# Altium footprint library HV9006_MEASUREBOARD.PCBLIB: 292 footprints (part 3 of 19)
Each footprint in its own frame and in the unit in brackets; x right, y up, seen from the top. Pads: shape width x height; smd on the part's side, far side on the other; paste and mask are expansions set on the pad; w line width, h text height; cw(c..) or ccw(c..) is an arc to the next point about the centre after c.
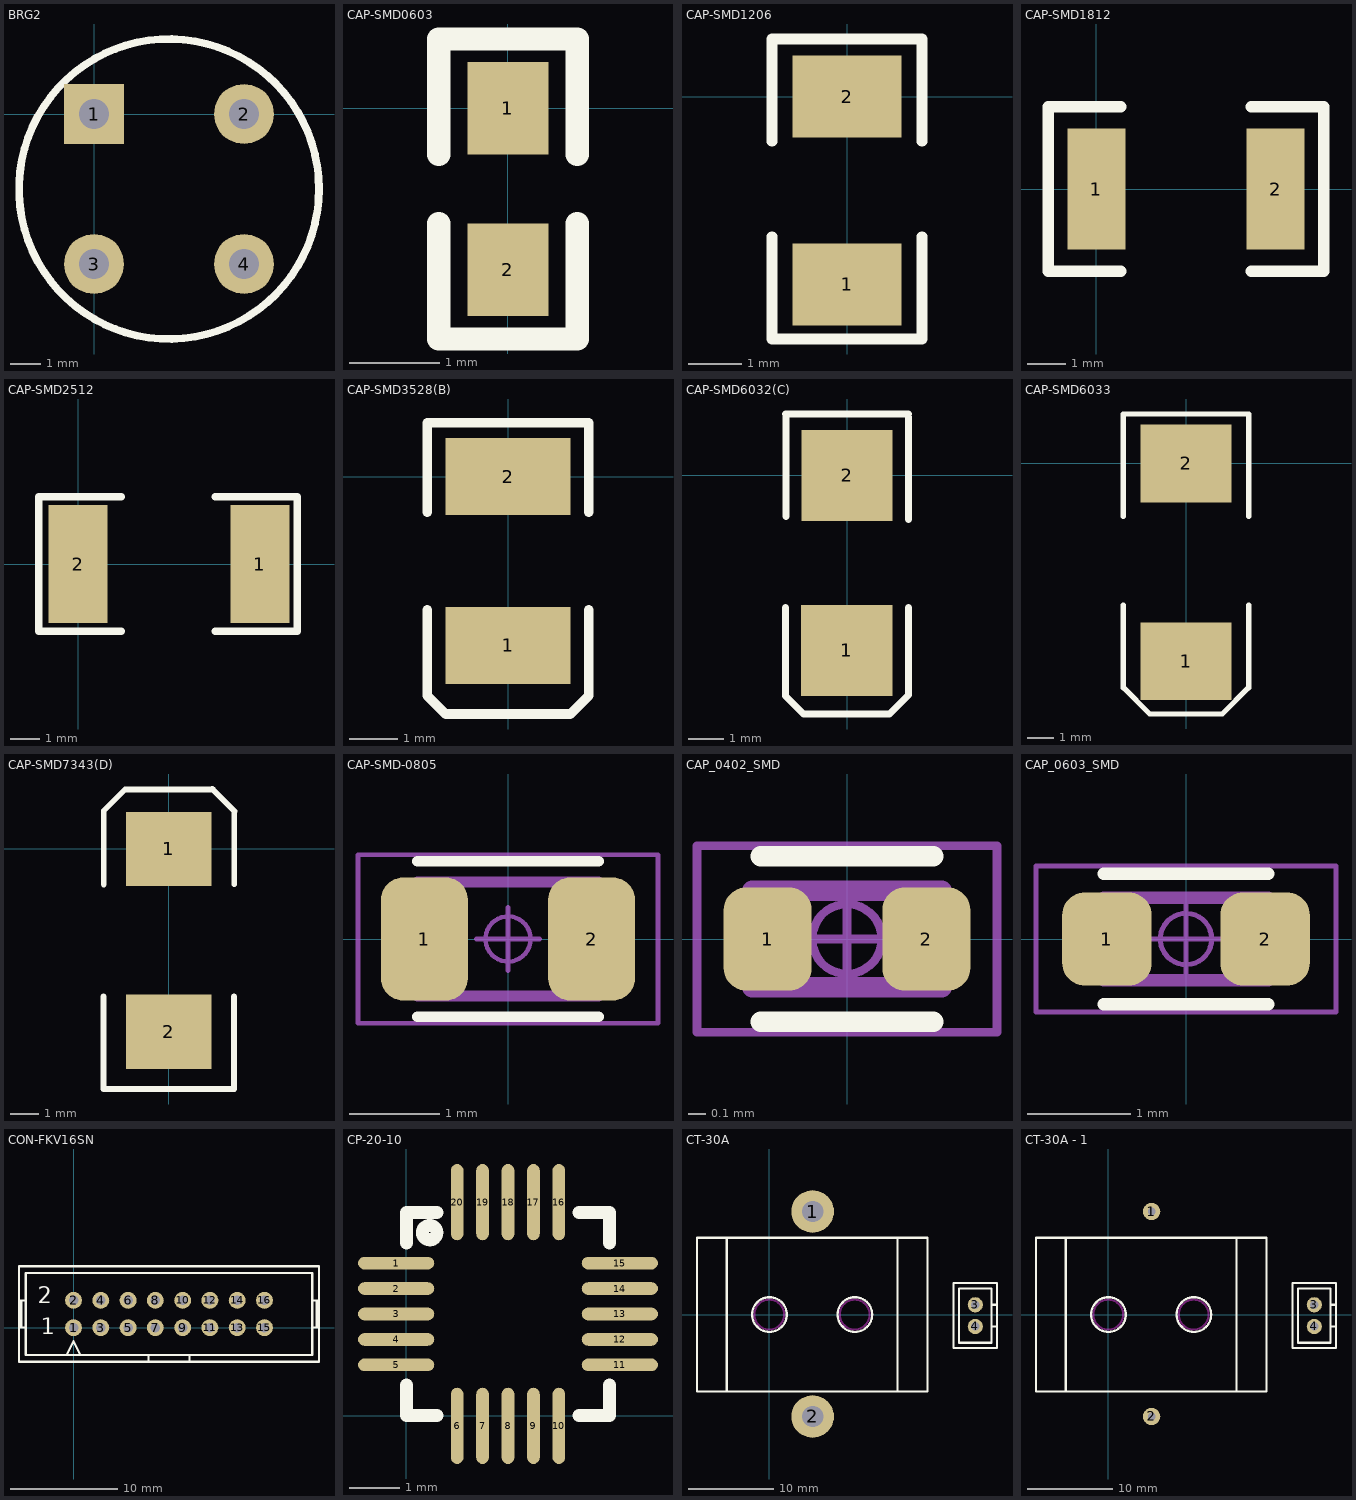
[diagram p2: the footprints below, top view; thin cyan lines are the x and y axes]

## BRG2 [mm]
pads (4):
  rect 2x2 hole 1: 1(0,0)
  round 2 hole 1: 2(5,0) 3(0,-5) 4(5,-5)
Top Overlay:
  circle w0.254: c2.5,-2.5 r5

## CAP-SMD0603 [mil]
pads (2):
  rect 35x40 smd: 1(0,0) 2(0,-70)
Top Overlay:
  lines w10: -30,-50 -30,-100 30,-100 30,-50 ; -30,-20 -30,30 30,30 30,-20

## CAP-SMD1206 [mil]
pads (2):
  rect 80x60 smd: 1(0,-137.79) 2(0,0)
Top Overlay:
  lines w8: -55,-102.8 -55,-177.79 55,-177.79 55,-102.8 ; -55,-32.8 -55,42.2 55,42.2 55,-32.8

## CAP-SMD1812 [mil]
pads (2):
  rect 60x125 smd: 1(0,0) 2(185,0)
Top Overlay:
  lines w12: 25,-85 -50,-85 -50,85 25,85 ; 160,-85 235,-85 235,85 160,85

## CAP-SMD2512 [mm]
pads (2):
  rect 2x4 smd: 1(6.167,0) 2(0,0)
Top Overlay:
  lines w0.254: 1.468,-2.286 -1.326,-2.286 -1.326,2.286 1.468,2.286 ; 4.643,-2.286 7.437,-2.286 7.437,2.286 4.643,2.286

## CAP-SMD3528(B) [mm]
pads (2):
  rect 2.6x1.6 smd: 1(0,-3.5) 2(0,0)
Top Overlay:
  lines w0.2: -1.676,-2.766 -1.676,-4.544 -1.295,-4.925 1.295,-4.925 1.676,-4.544 1.676,-2.766 ; -1.676,-0.734 -1.676,1.095 ; -1.676,1.12 1.676,1.12 ; 1.676,-0.734 1.676,1.095

## CAP-SMD6032(C) [mm]
pads (2):
  rect 2.6x2.6 smd: 1(-0.007,-4.992) 2(0,0)
Top Overlay:
  lines w0.2: -1.752,1.752 1.752,1.752 ; -1.75,-6.267 -1.75,-6.296 -1.244,-6.802 ; -1.748,-6.266 -1.748,-3.772 ; -1.744,-1.177 -1.744,1.744 ; -1.233,-6.804 1.216,-6.804 ; 1.216,-6.8 1.752,-6.264 ; 1.752,-6.266 1.752,-3.772 ; 1.752,-1.254 1.752,1.667

## CAP-SMD6033 [mm]
pads (2):
  rect 3.5x3 smd: 1(0,-7.62) 2(0,0)
Top Overlay:
  lines w0.2: -2.413,1.905 2.413,1.905
  lines w0.203: -2.413,-5.461 -2.413,-8.636 -1.397,-9.652 1.397,-9.652 2.413,-8.636 2.413,-5.461 ; -2.413,-2.032 -2.413,1.905 ; 2.413,-2.032 2.413,1.905

## CAP-SMD7343(D) [mm]
pads (2):
  rect 3x2.6 smd: 1(0,0) 2(0,-6.4)
Top Overlay:
  lines w0.2: -2.286,-8.4 -2.286,-5.163 ; -2.283,-8.399 2.289,-8.399 ; -2.279,-1.245 -2.279,1.333 -1.528,2.084 1.551,2.084 ; 1.492,2.084 1.506,2.084 ; 1.521,2.099 2.302,1.318 ; 2.286,-8.4 2.286,-5.163 ; 2.287,-1.23 2.287,1.304

## CAP-SMD-0805 [mm] "Capacitor, Chip; 2.00 mm L X 1.25 mm W X 1.00 mm H body"
height 1
pads (2):
  rrect50% 0.96x1.36 smd: 1(-0.925,0) 2(0.925,0)
Top Overlay:
  lines w0.12: -1,-0.86 1,-0.86 ; -1,0.86 1,0.86
Mechanical 11:
  lines w0.12: -1,-0.63 1,-0.63 1,0.63 -1,0.63 -1,-0.63
Mechanical 12:
  lines w0.025: -1,-0.625 1,-0.625 ; -1,-0.625 -1,0.625 ; -1,-0.625 -1,0.625 ; -1,-0.625 -0.5,-0.625 -0.5,0.625 -1,0.625 ; -1,0.625 1,0.625 ; 1,-0.625 1,0.625 ; 1,-0.625 0.5,-0.625 0.5,0.625 1,0.625 ; 1,-0.625 1,0.625
Mechanical 15:
  circle w0.05: c0,0 r0.25
  lines w0.05: -0.35,0 0.35,0 ; 0,-0.35 0,0.35 ; -1.66,-0.93 1.66,-0.93 1.66,0.93 -1.66,0.93 -1.66,-0.93
Mechanical 16:
  text ".Designator" at 0,0 h1.2
3D body: height 1, standoff 0.1, extent -1,-0.6 1,0.6
3D body: height 1.1, standoff 0, extent -1.025,-0.625 -0.675,0.625
3D body: height 1.1, standoff 0, extent 0.675,-0.625 1.025,0.625

## CAP_0402_SMD [mm] "Capacitor, Polarized, Chip; 1.00 mm L X 0.50 mm W X 0.35 mm H body"
height 0.35
pads (2):
  rrect51% 0.51x0.6 smd: 1(-0.46,0) 2(0.46,0)
Top Overlay:
  lines w0.12: -0.5,-0.48 0.5,-0.48 ; -0.5,0.48 0.5,0.48
Mechanical 11:
  lines w0.12: -0.55,-0.28 0.55,-0.28 0.55,0.28 -0.55,0.28 -0.55,-0.28
Mechanical 12:
  lines w0.025: -0.5,-0.25 0.5,-0.25 ; -0.5,-0.25 -0.5,0.25 ; -0.5,-0.25 -0.5,0.25 ; -0.5,-0.25 -0.3,-0.25 -0.3,0.25 -0.5,0.25 ; -0.5,0.25 0.5,0.25 ; 0.5,-0.25 0.5,0.25 ; 0.5,-0.25 0.3,-0.25 0.3,0.25 0.5,0.25 ; 0.5,-0.25 0.5,0.25
Mechanical 15:
  circle w0.05: c0,0 r0.202
  lines w0.05: -0.27,0 0.27,0 ; 0,-0.27 0,0.27 ; -0.87,-0.54 0.87,-0.54 0.87,0.54 -0.87,0.54 -0.87,-0.54
Mechanical 16:
  text ".Designator" at 0,0 h1.2
3D body: height 0.5, standoff 0, extent -0.5,-0.25 0.5,0.25
3D body: height 0.53, standoff 0, extent -0.525,-0.275 -0.25,0.275
3D body: height 0.53, standoff 0, extent 0.238,-0.275 0.513,0.275

## CAP_0603_SMD [mm] "Capacitor, Polarized, Chip; 1.60 mm L X 0.80 mm W X 0.89 mm H body"
height 0.89
pads (2):
  rrect51% 0.87x0.91 smd: 1(-0.77,0) 2(0.77,0)
Top Overlay:
  lines w0.12: -0.8,-0.635 0.8,-0.635 ; -0.8,0.635 0.8,0.635
Mechanical 11:
  lines w0.12: -0.8,-0.4 0.8,-0.4 0.8,0.4 -0.8,0.4 -0.8,-0.4
Mechanical 12:
  lines w0.025: -0.8,-0.4 0.8,-0.4 ; -0.8,-0.4 -0.8,0.4 ; -0.8,-0.4 -0.8,0.4 ; -0.8,-0.4 -0.45,-0.4 -0.45,0.4 -0.8,0.4 ; -0.8,0.4 0.8,0.4 ; 0.8,-0.4 0.8,0.4 ; 0.8,-0.4 0.45,-0.4 0.45,0.4 0.8,0.4 ; 0.8,-0.4 0.8,0.4
Mechanical 15:
  circle w0.05: c0,0 r0.25
  lines w0.05: -0.35,0 0.35,0 ; 0,-0.35 0,0.35 ; -1.46,-0.71 1.46,-0.71 1.46,0.71 -1.46,0.71 -1.46,-0.71
Mechanical 16:
  text ".Designator" at 0,0 h1.2
3D body: height 0.5, standoff 0, extent -0.6,-0.4 0.6,0.4
3D body: height 0.53, standoff 0, extent 0.288,-0.425 0.613,0.425
3D body: height 0.53, standoff 0, extent -0.612,-0.425 -0.287,0.425

## CON-FKV16SN [mil]
pads (16):
  round 62 hole 35: 1(0,0) 2(0,100) 3(100,0) 4(100,100) 5(200,0) 6(200,100) 7(300,0) 8(300,100) 9(400,0) 10(400,100) 11(500,0) 12(500,100) 13(600,0) 14(600,100) 15(700,0) 16(700,100)
Top Overlay:
  lines w8: -200,0 -175,0 ; -200,100 -175,100 ; -191.67,0 -191.67,100 ; -25,-100 0,-50 25,-100 ; 275,-125 275,-100 ; 425,-125 425,-100 ; 875,0 900,0 ; 875,100 900,100 ; 891.67,0 891.67,8.33 891.67,100 ; 275,-100 425,-100 ; 275,-100 -175,-100 -175,200 875,200 875,-100 425,-100 ; -200,-125 900,-125 900,225 -200,225 -200,-125
  text "1" at -120,-24 h60
  text "2" at -132,89 h60

## CP-20-10 [mm]
pads (20):
  oval 1.5x0.25 smd: 1(-0.2,3) 2(-0.2,2.5) 3(-0.2,2) 4(-0.2,1.5) 5(-0.2,1) 11(4.2,1) 12(4.2,1.5) 13(4.2,2) 14(4.2,2.5) 15(4.2,3)
  oval 0.25x1.5 smd: 6(1,-0.2) 7(1.5,-0.2) 8(2,-0.2) 9(2.5,-0.2) 10(3,-0.2) 16(3,4.2) 17(2.5,4.2) 18(2,4.2) 19(1.5,4.2) 20(1,4.2)
Top Overlay:
  circle w0.254: c0.459,3.6 r0.141
  lines w0.254: 0,0.6 0,0 0.6,0 ; 0,3.4 0,4 0.6,4 ; 3.4,0 4,0 4,0.6 ; 3.4,4 4,4 4,3.4

## CT-30A [mil]
pads (4):
  round 196.85 hole 98.43: 1(200,475) 2(200,-470)
  round 70 hole 39: 3(950,45) 4(950,-55)
Top Overlay:
  circle w10: c1,0 r80
  circle w10: c395,0 r80
  lines w10: -196,-355 -196,354 ; 592,-355 592,354 ; 1025,-55 1050,-55 ; 1025,45 1050,45 ; -333,-355 730,-355 730,354 -333,354 -333,-355 ; 850,-155 1050,-155 1050,145 850,145 850,-155 ; 875,-130 1025,-130 1025,120 875,120 875,-130
Keep-Out Layer:
  circle w10: c393.7,0 r68.9
  circle w10: c0,0 r68.9

## CT-30A - 1 [mil]
pads (4):
  round 80 hole 35: 1(200,475) 2(200,-470)
  round 70 hole 39: 3(950,45) 4(950,-55)
Top Overlay:
  circle w10: c395,0 r80
  circle w10: c1,0 r80
  lines w10: -196,-355 -196,354 ; 592,-355 592,354 ; 1025,-55 1050,-55 ; 1025,45 1050,45 ; -333,-355 -333,354 730,354 730,-355 -333,-355 ; 850,-155 850,145 1050,145 1050,-155 850,-155 ; 875,-130 875,120 1025,120 1025,-130 875,-130
Keep-Out Layer:
  circle w10: c0,0 r68.9
  circle w10: c393.7,0 r68.9